# Altium schematic symbol library ECS-384-8-36-CKY-TR.SchLib: 1 symbol
Pins are listed as number, name and electrical type; pins without a type are passive.

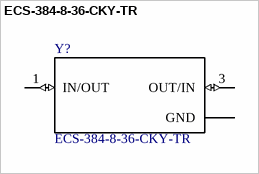
[diagram p0: symbol ECS-384-8-36-CKY-TR]

## ECS-384-8-36-CKY-TR
designator Y?
Crystal 38.4mhz 8pf Smd; MF: ECS Inc.; Digi-Key_Part_Number: XC2538CT-ND; SnapEDA_Link: https://www.snapeda.com/parts/ECS-384-8-36-CKY-TR/ECS%20Inc./view-part/?ref=snap; MP: ECS-384-8-36-CKY-TR; Package: SMD-4 ECS International; Digi-Key_Purchase_URL: https://www.digikey.com/product-detail/en/ecs-inc/ECS-384-8-36-CKY-TR/XC2538CT-ND/8023473?utm_source=snapeda&utm_medium=aggregator&utm_campaign=symbol; Value: *
footprint XTAL_ECS-384-8-36-CKY-TR
pins: 1 IN/OUT (io), 2 GND (power), 3 OUT/IN (io), 4 GND (power)